# EAGLE library part LPC4320 (library NXP)
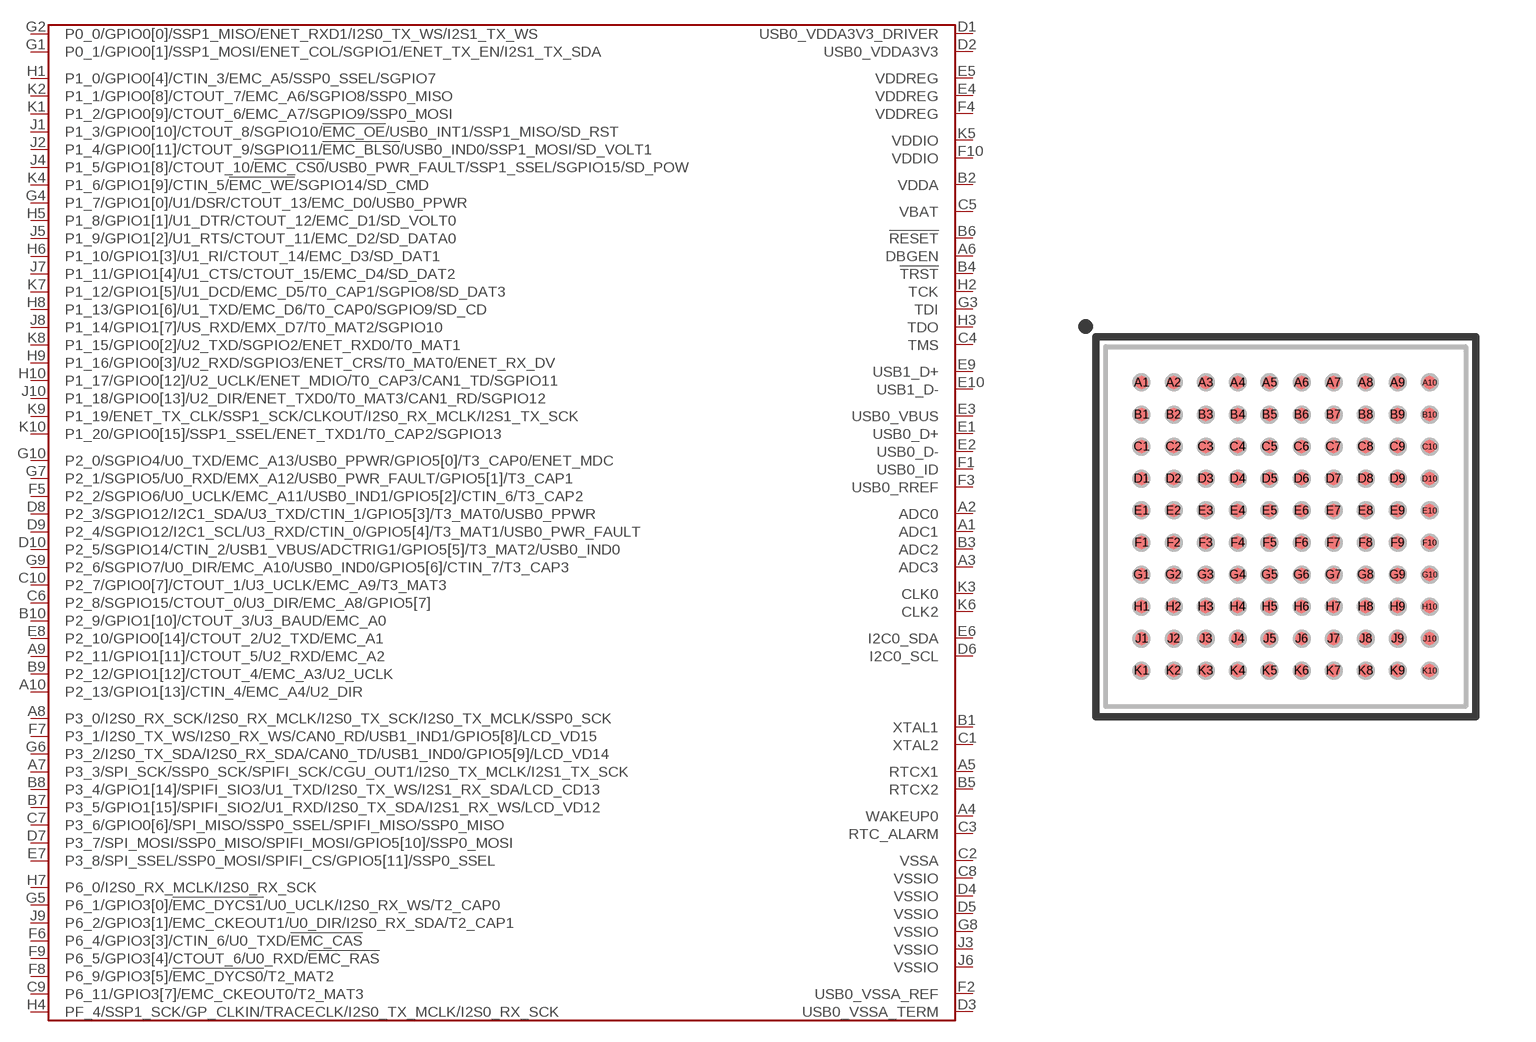
[diagram p5: symbol with the pads of TFBGA-100-9MM; footprint TFBGA-100-9MM]

Designator prefix U

## LPC4320FET100,551  [TFBGA-100-9MM]
A1  ADC1
A2  ADC0
A3  ADC3
A4  WAKEUP0
A5  RTCX1
A6  DBGEN
A7  P3_3/SPI_SCK/SSP0_SCK/SPIFI_SCK/CGU_OUT1/I2S0_TX_MCLK/I2S1_TX_SCK
A8  P3_0/I2S0_RX_SCK/I2S0_RX_MCLK/I2S0_TX_SCK/I2S0_TX_MCLK/SSP0_SCK
A9  P2_11/GPIO1[11]/CTOUT_5/U2_RXD/EMC_A2
A10  P2_13/GPIO1[13]/CTIN_4/EMC_A4/U2_DIR
B1  XTAL1
B2  VDDA
B3  ADC2
B4  !TRST
B5  RTCX2
B6  !RESET
B7  P3_5/GPIO1[15]/SPIFI_SIO2/U1_RXD/I2S0_TX_SDA/I2S1_RX_WS/LCD_VD12
B8  P3_4/GPIO1[14]/SPIFI_SIO3/U1_TXD/I2S0_TX_WS/I2S1_RX_SDA/LCD_CD13
B9  P2_12/GPIO1[12]/CTOUT_4/EMC_A3/U2_UCLK
B10  P2_9/GPIO1[10]/CTOUT_3/U3_BAUD/EMC_A0
C1  XTAL2
C2  VSSA
C3  RTC_ALARM
C4  TMS
C5  VBAT
C6  P2_8/SGPIO15/CTOUT_0/U3_DIR/EMC_A8/GPIO5[7]
C7  P3_6/GPIO0[6]/SPI_MISO/SSP0_SSEL/SPIFI_MISO/SSP0_MISO
C8  VSSIO
C9  P6_11/GPIO3[7]/EMC_CKEOUT0/T2_MAT3
C10  P2_7/GPIO0[7]/CTOUT_1/U3_UCLK/EMC_A9/T3_MAT3
D1  USB0_VDDA3V3_DRIVER
D2  USB0_VDDA3V3
D3  USB0_VSSA_TERM
D4  VSSIO
D5  VSSIO
D6  I2C0_SCL
D7  P3_7/SPI_MOSI/SSP0_MISO/SPIFI_MOSI/GPIO5[10]/SSP0_MOSI
D8  P2_3/SGPIO12/I2C1_SDA/U3_TXD/CTIN_1/GPIO5[3]/T3_MAT0/USB0_PPWR
D9  P2_4/SGPIO12/I2C1_SCL/U3_RXD/CTIN_0/GPIO5[4]/T3_MAT1/USB0_PWR_FAULT
D10  P2_5/SGPIO14/CTIN_2/USB1_VBUS/ADCTRIG1/GPIO5[5]/T3_MAT2/USB0_IND0
E1  USB0_D+
E2  USB0_D-
E3  USB0_VBUS
E4  VDDREG
E5  VDDREG
E6  I2C0_SDA
E7  P3_8/SPI_SSEL/SSP0_MOSI/SPIFI_CS/GPIO5[11]/SSP0_SSEL
E8  P2_10/GPIO0[14]/CTOUT_2/U2_TXD/EMC_A1
E9  USB1_D+
E10  USB1_D-
F1  USB0_ID
F2  USB0_VSSA_REF
F3  USB0_RREF
F4  VDDREG
F5  P2_2/SGPIO6/U0_UCLK/EMC_A11/USB0_IND1/GPIO5[2]/CTIN_6/T3_CAP2
F6  P6_4/GPIO3[3]/CTIN_6/U0_TXD/!EMC_CAS!
F7  P3_1/I2S0_TX_WS/I2S0_RX_WS/CAN0_RD/USB1_IND1/GPIO5[8]/LCD_VD15
F8  P6_9/GPIO3[5]/!EMC_DYCS0!/T2_MAT2
F9  P6_5/GPIO3[4]/CTOUT_6/U0_RXD/!EMC_RAS
F10  VDDIO
G1  P0_1/GPIO0[1]/SSP1_MOSI/ENET_COL/SGPIO1/ENET_TX_EN/I2S1_TX_SDA
G2  P0_0/GPIO0[0]/SSP1_MISO/ENET_RXD1/I2S0_TX_WS/I2S1_TX_WS
G3  TDI
G4  P1_7/GPIO1[0]/U1/DSR/CTOUT_13/EMC_D0/USB0_PPWR
G5  P6_1/GPIO3[0]/!EMC_DYCS1!/U0_UCLK/I2S0_RX_WS/T2_CAP0
G6  P3_2/I2S0_TX_SDA/I2S0_RX_SDA/CAN0_TD/USB1_IND0/GPIO5[9]/LCD_VD14
G7  P2_1/SGPIO5/U0_RXD/EMX_A12/USB0_PWR_FAULT/GPIO5[1]/T3_CAP1
G8  VSSIO
G9  P2_6/SGPIO7/U0_DIR/EMC_A10/USB0_IND0/GPIO5[6]/CTIN_7/T3_CAP3
G10  P2_0/SGPIO4/U0_TXD/EMC_A13/USB0_PPWR/GPIO5[0]/T3_CAP0/ENET_MDC
H1  P1_0/GPIO0[4]/CTIN_3/EMC_A5/SSP0_SSEL/SGPIO7
H2  TCK
H3  TDO
H4  PF_4/SSP1_SCK/GP_CLKIN/TRACECLK/I2S0_TX_MCLK/I2S0_RX_SCK
H5  P1_8/GPIO1[1]/U1_DTR/CTOUT_12/EMC_D1/SD_VOLT0
H6  P1_10/GPIO1[3]/U1_RI/CTOUT_14/EMC_D3/SD_DAT1
H7  P6_0/I2S0_RX_MCLK/I2S0_RX_SCK
H8  P1_13/GPIO1[6]/U1_TXD/EMC_D6/T0_CAP0/SGPIO9/SD_CD
H9  P1_16/GPIO0[3]/U2_RXD/SGPIO3/ENET_CRS/T0_MAT0/ENET_RX_DV
H10  P1_17/GPIO0[12]/U2_UCLK/ENET_MDIO/T0_CAP3/CAN1_TD/SGPIO11
J1  P1_3/GPIO0[10]/CTOUT_8/SGPIO10/!EMC_OE!/USB0_INT1/SSP1_MISO/SD_RST
J2  P1_4/GPIO0[11]/CTOUT_9/SGPIO11/!EMC_BLS0!/USB0_IND0/SSP1_MOSI/SD_VOLT1
J3  VSSIO
J4  P1_5/GPIO1[8]/CTOUT_10/!EMC_CS0!/USB0_PWR_FAULT/SSP1_SSEL/SGPIO15/SD_POW
J5  P1_9/GPIO1[2]/U1_RTS/CTOUT_11/EMC_D2/SD_DATA0
J6  VSSIO
J7  P1_11/GPIO1[4]/U1_CTS/CTOUT_15/EMC_D4/SD_DAT2
J8  P1_14/GPIO1[7]/US_RXD/EMX_D7/T0_MAT2/SGPIO10
J9  P6_2/GPIO3[1]/EMC_CKEOUT1/U0_DIR/I2S0_RX_SDA/T2_CAP1
J10  P1_18/GPIO0[13]/U2_DIR/ENET_TXD0/T0_MAT3/CAN1_RD/SGPIO12
K1  P1_2/GPIO0[9]/CTOUT_6/EMC_A7/SGPIO9/SSP0_MOSI
K2  P1_1/GPIO0[8]/CTOUT_7/EMC_A6/SGPIO8/SSP0_MISO
K3  CLK0
K4  P1_6/GPIO1[9]/CTIN_5/!EMC_WE!/SGPIO14/SD_CMD
K5  VDDIO
K6  CLK2
K7  P1_12/GPIO1[5]/U1_DCD/EMC_D5/T0_CAP1/SGPIO8/SD_DAT3
K8  P1_15/GPIO0[2]/U2_TXD/SGPIO2/ENET_RXD0/T0_MAT1
K9  P1_19/ENET_TX_CLK/SSP1_SCK/CLKOUT/I2S0_RX_MCLK/I2S1_TX_SCK
K10  P1_20/GPIO0[15]/SSP1_SSEL/ENET_TXD1/T0_CAP2/SGPIO13

## Footprint TFBGA-100-9MM (pad centres in mm)
smd 0.33 x 0.33: A1 -3.6,3.6; A2 -2.8,3.6; A3 -2,3.6; A4 -1.2,3.6; A5 -0.4,3.6; A6 0.4,3.6; A7 1.2,3.6; A8 2,3.6; A9 2.8,3.6; A10 3.6,3.6; B1 -3.6,2.8; B2 -2.8,2.8; B3 -2,2.8; B4 -1.2,2.8; B5 -0.4,2.8; B6 0.4,2.8; B7 1.2,2.8; B8 2,2.8; B9 2.8,2.8; B10 3.6,2.8; C1 -3.6,2; C2 -2.8,2; C3 -2,2; C4 -1.2,2; C5 -0.4,2; C6 0.4,2; C7 1.2,2; C8 2,2; C9 2.8,2; C10 3.6,2; D1 -3.6,1.2; D2 -2.8,1.2; D3 -2,1.2; D4 -1.2,1.2; D5 -0.4,1.2; D6 0.4,1.2; D7 1.2,1.2; D8 2,1.2; D9 2.8,1.2; D10 3.6,1.2; E1 -3.6,0.4; E2 -2.8,0.4; E3 -2,0.4; E4 -1.2,0.4; E5 -0.4,0.4; E6 0.4,0.4; E7 1.2,0.4; E8 2,0.4; E9 2.8,0.4; E10 3.6,0.4; F1 -3.6,-0.4; F2 -2.8,-0.4; F3 -2,-0.4; F4 -1.2,-0.4; F5 -0.4,-0.4; F6 0.4,-0.4; F7 1.2,-0.4; F8 2,-0.4; F9 2.8,-0.4; F10 3.6,-0.4; G1 -3.6,-1.2; G2 -2.8,-1.2; G3 -2,-1.2; G4 -1.2,-1.2; G5 -0.4,-1.2; G6 0.4,-1.2; G7 1.2,-1.2; G8 2,-1.2; G9 2.8,-1.2; G10 3.6,-1.2; H1 -3.6,-2; H2 -2.8,-2; H3 -2,-2; H4 -1.2,-2; H5 -0.4,-2; H6 0.4,-2; H7 1.2,-2; H8 2,-2; H9 2.8,-2; H10 3.6,-2; J1 -3.6,-2.8; J2 -2.8,-2.8; J3 -2,-2.8; J4 -1.2,-2.8; J5 -0.4,-2.8; J6 0.4,-2.8; J7 1.2,-2.8; J8 2,-2.8; J9 2.8,-2.8; J10 3.6,-2.8; K1 -3.6,-3.6; K2 -2.8,-3.6; K3 -2,-3.6; K4 -1.2,-3.6; K5 -0.4,-3.6; K6 0.4,-3.6; K7 1.2,-3.6; K8 2,-3.6; K9 2.8,-3.6; K10 3.6,-3.6